# EAGLE library part AD5624DEV (library ldalibrary)
4 Channel DAC
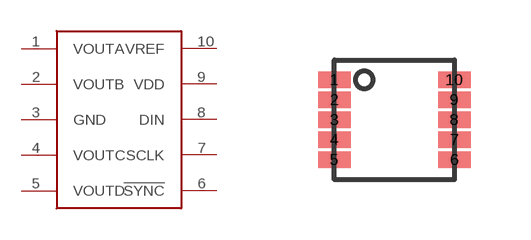
[diagram p0: symbol with the pads of AD5624MSOP; footprint AD5624MSOP]

Designator prefix -

## AD5624DEV  [AD5624MSOP]
1  VOUTA
2  VOUTB
3  GND
4  VOUTC
5  VOUTD
6  !SYNC
7  SCLK
8  DIN
9  VDD
10  VREF

## Footprint AD5624MSOP (pad centres in mm)
AD5624 10-Lead Mini Small Outline Package [MSOP]
smd 0.813 x 0.406: 1 0,2.5; 2 0,2; 3 0,1.5; 4 0,1; 5 0,0.5; 6 3,0.5; 7 3,1; 8 3,1.5; 9 3,2; 10 3,2.5